# Altium footprint library 电源管理IC.PcbLib: 2 footprints
Each footprint in its own frame and in the unit in brackets; x right, y up, seen from the top. Pads: shape width x height; smd on the part's side, far side on the other; paste and mask are expansions set on the pad; w line width, h text height; cw(c..) or ccw(c..) is an arc to the next point about the centre after c.
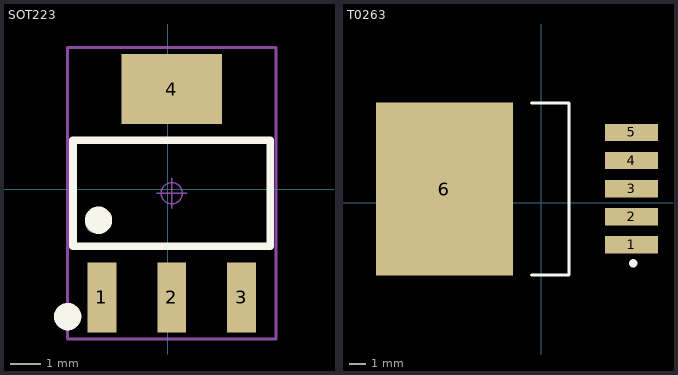
[diagram p0: the footprints below, top view; thin cyan lines are the x and y axes]

## SOT223 [mm]
pads (4):
  rect 0.95x2.3 smd: 1(-2.173,-3.556) 2(0.127,-3.556) 3(2.427,-3.556)
  rect 3.3x2.3 smd: 4(0.127,3.302)
Top Overlay:
  circle w0.5: c-3.302,-4.191 r0.2
  circle w0.5: c-2.286,-1.016 r0.2
  lines w0.25: -3.123,-1.877 3.377,-1.877 3.377,1.623 -3.123,1.623 -3.123,-1.877
Mechanical 13:
  circle w0.1: c-2.409,-1.143 r0.25
  lines w0.1: -3.123,-1.877 -3.123,1.623 3.377,1.623 3.377,-1.877 -3.123,-1.877
Mechanical 15:
  circle w0.05: c0.127,-0.127 r0.35
  lines w0.05: -0.373,-0.127 0.627,-0.127 ; 0.127,-0.627 0.127,0.373
  lines w0.1: -3.302,-4.927 -3.302,4.673 3.556,4.673 3.556,-4.927 -3.302,-4.927
3D body "SOT223.STEP": height 1.65, standoff -0.02, extent -3.123,-3.635 3.377,3.381

## T0263 [mm]
pads (6):
  rect 3.2x1.05 smd: 1(5.461,-2.558) 2(5.461,-0.858) 3(5.461,0.842) 4(5.461,2.542) 5(5.461,4.242)
  rect 8.3x10.45 smd: 6(-5.863,0.82)
Top Overlay:
  circle w0.25: c5.563,-3.675 r0.125
  lines w0.2: -0.576,-4.38 1.674,-4.38 1.674,6.02 -0.576,6.02
3D body "TO263-5.STEP": height 4.78, standoff -0.02, extent -9.283,-4.205 6.387,5.795